# Altium schematic symbol library FXAS21002C.SchLib: 1 symbol
Pins are listed as number, name and electrical type; pins without a type are passive.

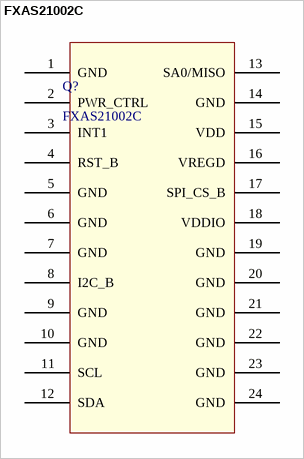
[diagram p0: symbol FXAS21002C]

## FXAS21002C
designator Q?
footprint FXAS21002C-24QFN
pins: 1 GND, 2 PWR_CTRL, 3 INT1, 4 RST_B, 5 GND, 6 GND, 7 GND, 8 I2C_B, 9 GND, 10 GND, 11 SCL, 12 SDA, 13 SA0/MISO, 14 GND, 15 VDD, 16 VREGD, 17 SPI_CS_B, 18 VDDIO, 19 GND, 20 GND, 21 GND, 22 GND, 23 GND, 24 GND